# Altium schematic symbol library dongxf_Schlib.SchLib: 300 symbols (part 3 of 6)
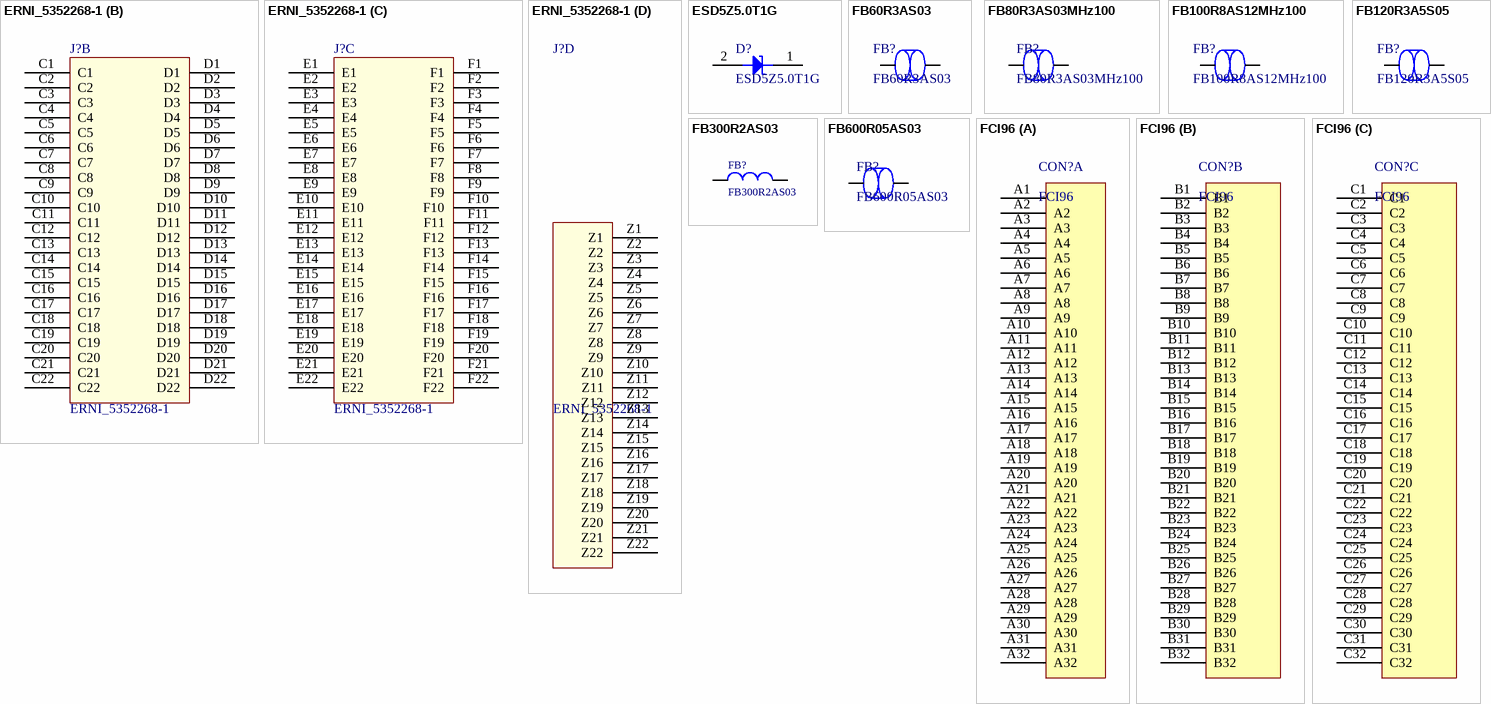
[diagram p16: symbols ERNI_5352268-1 to FCI96]

## ESD5Z5.0T1G
designator D?
TVS Diodes - Transient Voltage Suppressors SOD523 ESD DIODE; Manufacturer: ON Semiconductor; Breakdown Voltage: 6.2 V; Capacitance: 80 pF; Clamping Voltage: 18.6 V; Operating Voltage: 5 V; Peak Surge Current: 9.4 A; Peak Pulse Power Dissipation: 200 W; Polarity: Unidirectional; Supplier 1: Mouser; Manufacturer Part Number: ESD5Z5.0T1G; RoHS: RoHS Compliant; Category: TVS Diodes - Transient Voltage Suppressors; Stock 1: 110099; Pricing 1: 1=0.378, 10=0.244, 100=0.101, 1000=0.069, 3000=0.054, 9000=0.046, 24000=0.043, 45000=0.041, 99000=0.035 (AUD); Dimensions: 0.8 mm W x 1.2 mm L; Package / Case: SOD-523; Packaging: Reel; Series: ESD5Z2.5T1G; Termination Style: SMD/SMT; Brand: ON Semiconductor; Maximum Operating Temperature: + 150 C; Minimum Operating Temperature: - 55 C; Product Category: Diodes- TVS; Standard Pack Qty: 3000; RoHS - Mouser: Y; Minimum Order Quantity: 1; Reeling: True; ComponentLink1URL: http://www.mouser.com/ds/2/308/ESD5Z2.5T1-D-241596.pdf; ComponentLink1Description: http://www.mouser.com/ds/2/308/ESD5Z2.5T1-D-241596.pdf; Supplier Part Number 1: 863-ESD5Z5.0T1G; My_Descript: ESD5Z5.0T1G
footprint SOD-523
pins: 1, 2

## FB60R3AS03
designator FB?
EMI Filter Beads, Chips & Arrays 0603 Case 60 Ohms; Manufacturer: AEM; Manufacturer Part Number: MCP0603F600PT-T; Impedance: 60 Ohms; Maximum DC Current: 3 A; Maximum DC Resistance: 40 mOhms; Tolerance: 25 %; Case Height: 0.94 mm; Case Length: 1.6 mm; Case Width: 0.8 mm; Test Frequency: 100 MHz; Inductance: 4.7 uH; Self Resonant Frequency: 1 MHz; Shielding: Shielded; Type: Low Profile High Current IHLP Inductors; Supplier 1: Mouser; RoHS: RoHS Compliant; Category: EMI Filter Beads, Chips & Arrays; Stock 1: 902; Pricing 1: 1=0.135, 25=0.093, 50=0.072, 100=0.065, 500=0.058, 1000=0.050, 2000=0.047, 4000=0.042, 8000=0.039 (AUD); Capacitance: -; Dimensions: 0.8 mm W x 1.6 mm L x 0.94 mm H; Operating Temperature Range: - 55 C to + 125 C; Package / Case: 0603 (1608 metric); Packaging: Reel; Product: Ferrite Chip Beads; Termination Style: SMD/SMT; Brand: AEM; Product Category: Ferrite Power Beads; Standard Pack Qty: 1000; RoHS - Mouser: Y; Minimum Order Quantity: 1; Reeling: True; ComponentLink1URL: http://doc.aemcomponents.com/catalog/AEM_MCP.pdf; ComponentLink1Description: http://doc.aemcomponents.com/catalog/AEM_MCP.pdf; Supplier Part Number 1: 637-MCP0603F600PT-T; My_Descript: FB60R3AS03; Supplier 2: Mouser; Stock 2: 3435; Pricing 2: 1=2.30, 10=1.89, 100=1.70, 500=1.55, 1000=1.40, 2000=1.31, 4000=1.24, 8000=1.19, 12000=1.13 (AUD); Series: IHLP-2525CZ-11; ComponentLink2URL: http://www.mouser.com/ds/2/427/ihlp25cz-240021.pdf; ComponentLink2Description: http://www.mouser.com/ds/2/427/ihlp25cz-240021.pdf; Supplier Part Number 2: 71-IHLP2525CZER4R7M1
footprint FB0603 (1608 metric)
pins: 1, 2

## FB80R3AS03MHz100
designator FB?
Manufacturer: Bourns; Manufacturer Part Number: MH1608-800Y; Impedance: 80 Ohms; Maximum DC Current: 3 A; Maximum DC Resistance: 40 mOhms; Tolerance: 25 %; Case Height: 0.8 mm; Case Length: 1.6 mm; Test Frequency: 100 MHz; Supplier 1: Mouser; RoHS: RoHS Compliant; Category: EMI Filter Beads, Chips & Arrays; Stock 1: 10503; Pricing 1: 1=0.135, 10=0.078, 25=0.070, 50=0.063, 100=0.046, 250=0.034, 500=0.031, 1000=0.027, 4000=0.020 (AUD); Capacitance: -; Dimensions: 0.8 mm W x 1.6 mm L x 0.8 mm H; Operating Temperature Range: - 55 C to + 125 C; Package / Case: 1608 (3216 metric); Packaging: Reel; Product: Ferrite Chip Beads; Series: MH; Termination Style: SMD/SMT; Brand: Bourns; Case Width: 0.8 mm; Product Category: SMD Ferrite Bead; Standard Pack Qty: 4000; RoHS - Mouser: Y; Minimum Order Quantity: 1; Reeling: True; ComponentLink1URL: http://www.mouser.com/ds/2/54/mh-69602.pdf; ComponentLink1Description: http://www.mouser.com/ds/2/54/mh-69602.pdf; Supplier Part Number 1: 652-MH1608-800Y; My_Descript: FB80R3AS03MHz100
footprint FB0603 (1608 metric)
pins: 1, 2

## FB100R8AS12MHz100
designator FB?
FERRITE CHIP POWER 120 OHM SMD; Manufacturer: Laird Technologies; Manufacturer Part Number: HI1812V101R-10; Impedance: 100 Ohms; Maximum DC Current: 8 A; Maximum DC Resistance: 10 mOhms; Case Height: 5 mm; Case Length: 4.5 mm; Case Width: 3.2 mm; Test Frequency: 100 MHz; MY_Descript: FB100R8AS12MHz100; Supplier 1: Mouser; RoHS: RoHS Compliant; Category: EMI Filter Beads, Chips & Arrays; Stock 1: 38101; Pricing 1: 1=0.392, 10=0.246, 100=0.205, 500=0.189, 1000=0.159, 2500=0.149, 10000=0.115, 25000=0.112, 50000=0.109 (AUD); Capacitance: -; Dimensions: 3.2 mm W x 4.5 mm L x 5 mm H; Operating Temperature Range: - 55 C to + 125 C; Package / Case: 1812 (4532 metric); Packaging: Reel; Product: Ferrite Chip Beads; Series: HI; Termination Style: SMD/SMT; Brand: Laird Technologies; Product Category: Chip Ferrite Beads / EMI Filters; Standard Pack Qty: 2500; RoHS - Mouser: Y; Minimum Order Quantity: 1; Reeling: True; ComponentLink1URL: http://www.lairdtech.com/WorkArea/linkit.aspx?LinkIdentifier=id&ItemID=4855; ComponentLink1Description: http://www.lairdtech.com/WorkArea/linkit.aspx?LinkIdentifier=id&ItemID=4855; Supplier Part Number 1: 875-HI1812V101R-10
footprint FB1812(4532)
pins: 1, 2

## FB120R3A5S05
designator FB?
FERRITE CHIP POWER 120 OHM SMD; Manufacturer: Laird-Signal Integrity Products; Manufacturer Part Number: HI0805O121R-10; Impedance @ Frequency: 120 Ohm @ 100MHz; Current Rating: 3.5A; DC Resistance (DCR): 20 mOhm Max; Filter Type: Differential Mode - Single; Supplier 1: Digi-Key; RoHS: RoHS Compliant; Category: Filters; Stock 1: 70333; Pricing 1: 1=0.1, 10=0.087, 25=0.0792, 50=0.0712, 100=0.0523, 250=0.038, 500=0.03484, 1000=0.0301 (USD); Packaging: Digi-Reel?; Package / Case: 0805 (2012 Metric); Mounting Type: Surface Mount; Height (Max): 0.043" (1.10mm); Size / Dimension: 0.079" L x 0.049" W (2.00mm x 1.25mm); ComponentLink1URL: http://www.lairdtech.com/WorkArea/linkit.aspx?LinkIdentifier=id&ItemID=4844; ComponentLink1Description: http://www.lairdtech.com/WorkArea/linkit.aspx?LinkIdentifier=id&ItemID=4844; Supplier Part Number 1: 240-2393-6-ND; MY_Descript: FB120R3A5S05
footprint FB0805 (2012metric)
pins: 1, 2

## FB300R2AS03
designator FB?
EMI Filter Beads, Chokes & Arrays 0603 300ohm 25%; Manufacturer: KOA Speer; Manufacturer Part Number: CZP1JFTTD301P; Maximum DC Resistance: 0.1 Ohms; Maximum DC Current: 2000 mA; Impedance: 300 Ohms; Case Height: 0.8 mm; Case Length: 1.6 mm; Footprint: CAPC1608X90N; Value: 300OHM; Supplier 1: Mouser; Supplier Part Number 1: 660-CZP1JFTTD301P; Product: Chip Ferrite Beads; Package / Case: 0603 (1608 metric); RoHS - Mouser: Y; Tolerance: 25 %; Operating Temperature Range: - 55 C to + 125 C; Product Category: Ferrite Chip Beads; RoHS: RoHS Compliant; Termination Style: SMD/SMT; Packaging: Reel; Category: EMI Filter Beads, Chokes & Arrays; Dimensions: 0.8 mm W x 1.6 mm L x 0.8 mm H; Reeling: True; Minimum Order Quantity: 1; Case Width: 0.8 mm; My_Descript: FB300R2AS03
footprint FB0603 (1608 metric)
pins: 1, 2

## FB600R05AS03
designator FB?
EMI Filter Beads, Chips & Arrays 0603 600 OHM; Manufacturer: Murata Electronics; Manufacturer Part Number: BLM18AG601SN1D; Impedance: 600 Ohms; Maximum DC Current: 500 mA; Maximum DC Resistance: 380 mOhms; Tolerance: 25 %; Case Height: 0.8 mm; Case Length: 1.6 mm; Test Frequency: 100 MHz; Supplier 1: Mouser; RoHS: RoHS Compliant; Category: EMI Filter Beads, Chips & Arrays; Stock 1: 252987; Pricing 1: 1=0.149, 10=0.088, 100=0.043, 1000=0.036, 4000=0.027, 8000=0.026, 24000=0.023, 100000=0.022 (AUD); Capacitance: -; Dimensions: 0.8 mm W x 1.6 mm L x 0.8 mm H; Operating Temperature Range: - 55 C to + 125 C; Package / Case: 0603 (1608 metric); Packaging: Reel; Product: Ferrite Chip Beads; Series: BLM18A; Termination Style: SMD/SMT; Brand: Murata Electronics; Case Width: 0.8 mm; Product Category: SMD EMI Filters/Chip Ferrite Beads; Standard Pack Qty: 4000; RoHS - Mouser: Y; Minimum Order Quantity: 1; Reeling: True; ComponentLink1URL: http://www.mouser.com/ds/2/281/Murata BL Series-202933.pdf; ComponentLink1Description: http://www.mouser.com/ds/2/281/Murata BL Series-202933.pdf; Supplier Part Number 1: 81-BLM11A601S; My_Descript: FB600R05AS03
footprint FB0603 (1608 metric)
pins: 1, 2

## FCI96
designator CON?
part A pins: A1, A2, A3, A4, A5, A6, A7, A8, A9, A10, A11, A12, A13, A14, A15, A16, A17, A18, A19, A20, A21, A22, A23, A24, A25, A26, A27, A28, A29, A30, A31, A32
part B pins: B1, B2, B3, B4, B5, B6, B7, B8, B9, B10, B11, B12, B13, B14, B15, B16, B17, B18, B19, B20, B21, B22, B23, B24, B25, B26, B27, B28, B29, B30, B31, B32
part C pins: C1, C2, C3, C4, C5, C6, C7, C8, C9, C10, C11, C12, C13, C14, C15, C16, C17, C18, C19, C20, C21, C22, C23, C24, C25, C26, C27, C28, C29, C30, C31, C32

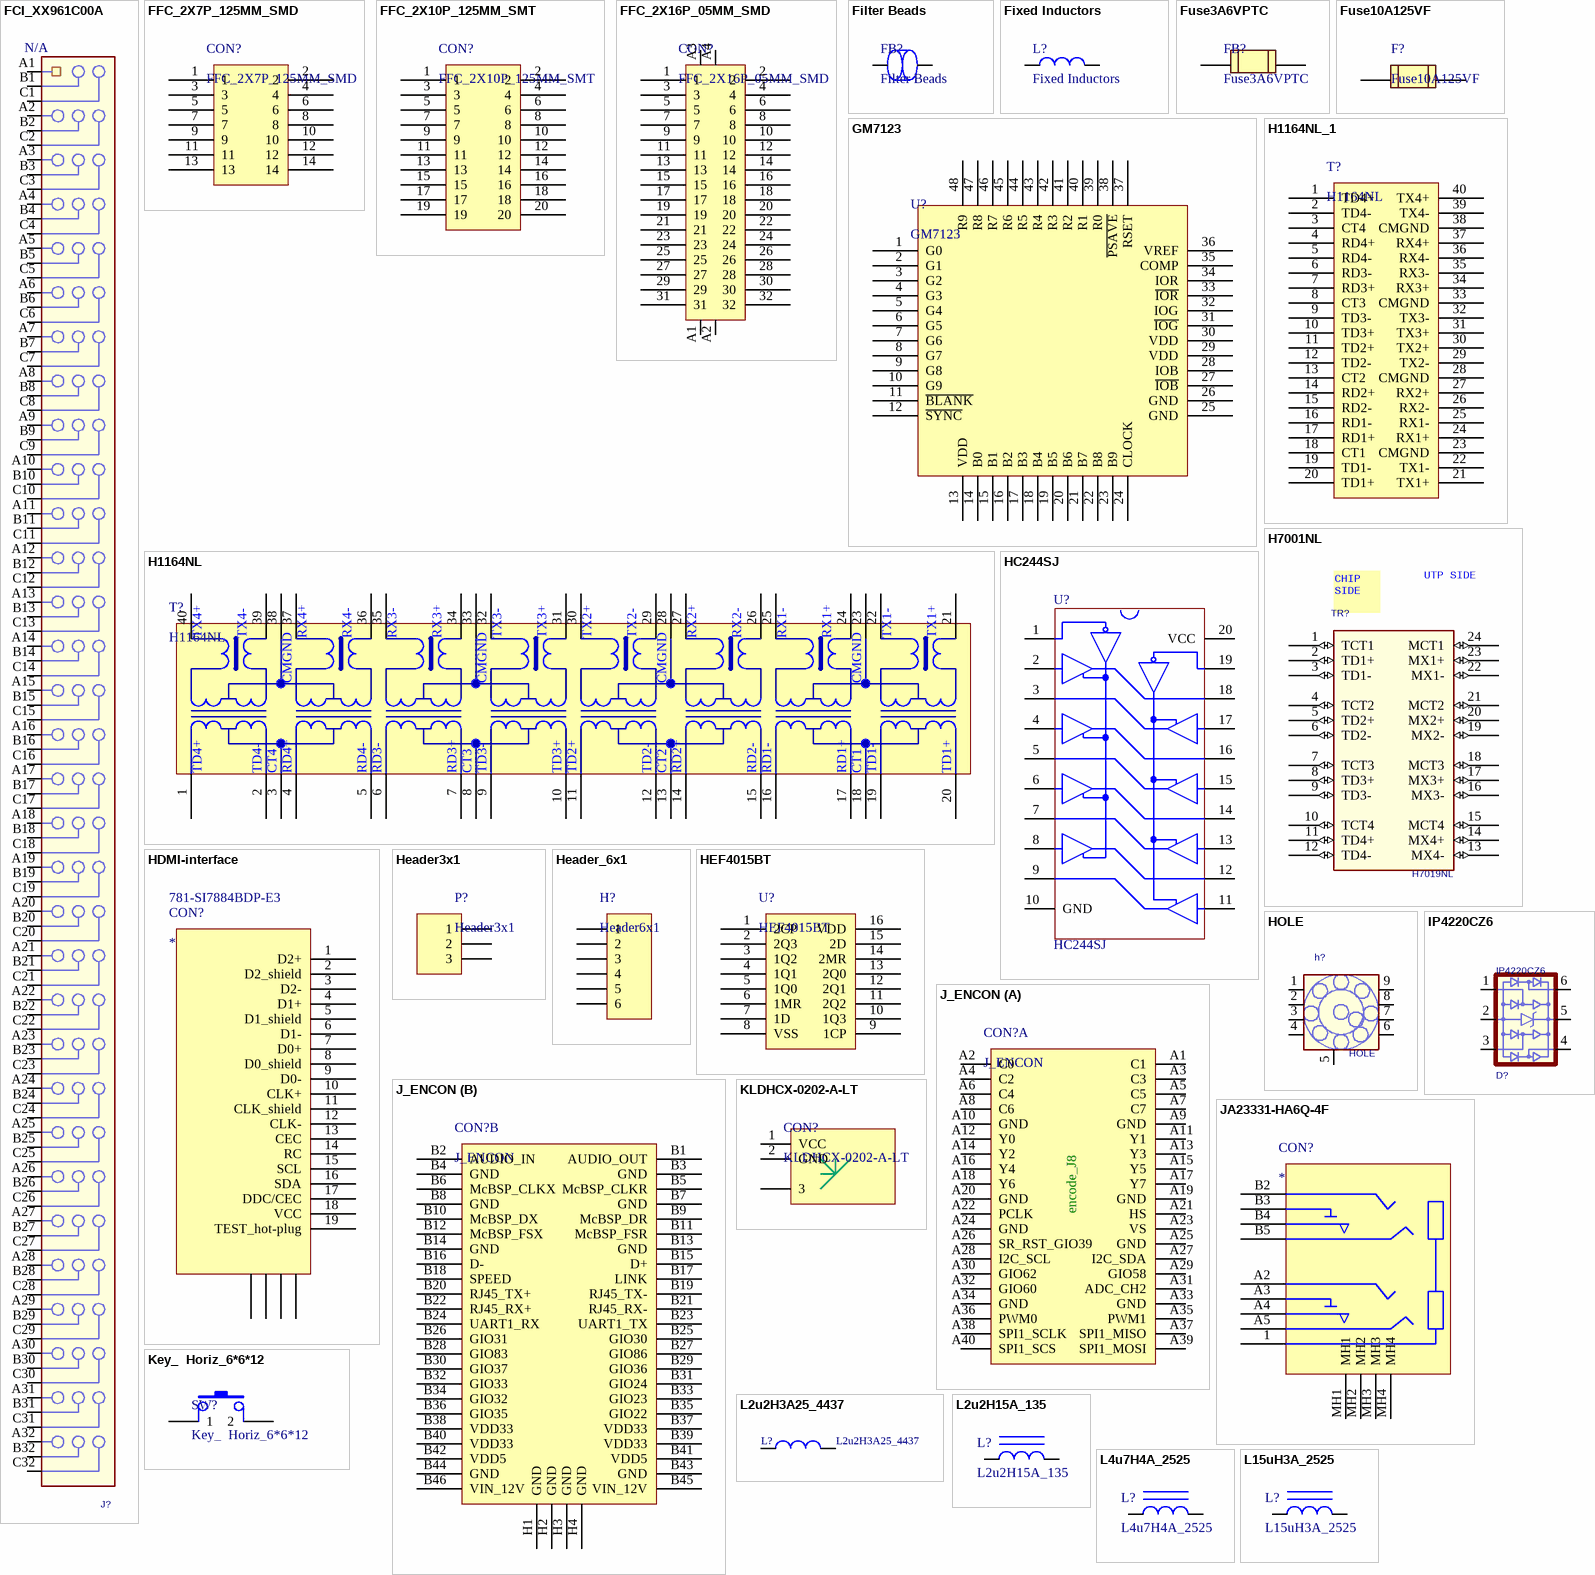
[diagram p6: symbols FCI_XX961C00A to L15uH3A_2525]

## FCI_XX961C00A
designator J?
Supplier 1: Mouser; Supplier Part Number 1: N/A
pins: A1, A2, A3, A4, A5, A6, A7, A8, A9, A10, A11, A12, A13, A14, A15, A16, A17, A18, A19, A20, A21, A22, A23, A24, A25, A26, A27, A28, A29, A30, A31, A32, B1, B2, B3, B4, B5, B6, B7, B8, B9, B10, B11, B12, B13, B14, B15, B16, B17, B18, B19, B20, B21, B22, B23, B24, B25, B26, B27, B28, B29, B30, B31, B32, C1, C2, C3, C4, C5, C6, C7, C8, C9, C10, C11, C12, C13, C14, C15, C16, C17, C18, C19, C20, C21, C22, C23, C24, C25, C26, C27, C28, C29, C30, C31, C32

## FFC_2X7P_125MM_SMD
designator CON?
Manufacturer: Molex; Current Rating: 1 A; Mounting Angle: Vertical; Number of Positions: 14; Voltage Rating: 200 V; Pitch: 1.25 mm; Actuation Type: ZIF; My_Descript: FFC_2X7P_125MM_SMD; Supplier 1: Mouser; Manufacturer Part Number: 39-53-2145; RoHS: RoHS Compliant; Category: FFC & FPC Connectors; Stock 1: 841; Pricing 1: 1=1.65, 10=1.32, 100=1.26, 250=1.01, 500=0.959, 1000=0.852, 2000=0.709 (AUD); Contact Plating: Tin-Bismuth over Nickel; Housing Material: Polybutylene Terephthalate (PBT); Packaging: Tray; Series: 05597; Termination Style: SMD; Brand: Molex; Contact Material: Phosphor Bronze; Product Category: 1.25mm FFC/FPC Connectors; Product Type: Board Mount; Standard Pack Qty: 900; RoHS - Mouser: Y; Minimum Order Quantity: 1; Reeling: False; ComponentLink1URL: http://www.mouser.com/ds/2/276/0039532145_FFC_FPC_CONNECTORS-160044.pdf; ComponentLink1Description: http://www.mouser.com/ds/2/276/0039532145_FFC_FPC_CONNECTORS-160044.pdf; Supplier Part Number 1: 538-39-53-2145
footprint FFC_2X7P_125MM_SMD
pins: 1, 2, 3, 4, 5, 6, 7, 8, 9, 10, 11, 12, 13, 14

## FFC_2X10P_125MM_SMT
designator CON?
Manufacturer: Molex; Current Rating: 1 A; Mounting Angle: Vertical; Number of Positions: 20; Voltage Rating: 200 V; Pitch: 1.25 mm; Actuation Type: ZIF; Supplier 1: Mouser; Manufacturer Part Number: 39-53-2205; RoHS: RoHS Compliant; Category: FFC & FPC Connectors; Stock 1: 948; Pricing 1: 1=2.30, 50=2.03, 100=1.49, 500=1.47, 1000=1.34, 2000=1.20 (AUD); Contact Plating: Tin-Bismuth over Nickel; Housing Material: Polybutylene Terephthalate (PBT); Packaging: Tray; Series: 05597; Termination Style: Through Hole; Brand: Molex; Contact Material: Phosphor Bronze; Product Category: 1.25mm FFC/FPC Connectors; Product Type: Board Mount; Standard Pack Qty: 700; RoHS - Mouser: Y; Minimum Order Quantity: 1; Reeling: False; ComponentLink1URL: http://www.mouser.com/ds/2/276/0039532205_FFC_FPC_CONNECTORS-160244.pdf; ComponentLink1Description: http://www.mouser.com/ds/2/276/0039532205_FFC_FPC_CONNECTORS-160244.pdf; Supplier Part Number 1: 538-39-53-2205; My_Descript: FFC_2X10P_125MM_SMT
footprint FFC_2X10P_125MM_SMT
pins: 1, 2, 3, 4, 5, 6, 7, 8, 9, 10, 11, 12, 13, 14, 15, 16, 17, 18, 19, 20

## FFC_2X16P_05MM_SMD
designator CON?
FFC & FPC Connectors 0.5 FPC CONN. VERTIC AL SMT NON-ZIF 32CKT; Manufacturer: Molex; Manufacturer Part Number: 78127-1329; Current Rating: 500 mA; Number of Positions: 32; Voltage Rating: 50 VAC; Pitch: 0.5 mm; Supplier 1: Mouser; RoHS: RoHS Compliant; Category: FFC & FPC Connectors; Stock 1: 1075; Pricing 1: 1=2.23, 10=2.00, 100=1.57, 500=1.31, 1000=0.988 (AUD); Contact Plating: Tin Bismuth; Housing Material: Polyamide (PA); Mounting Angle: Vertical; Packaging: Reel; Series: 78127; Termination Style: SMD; Brand: Molex; Contact Material: Copper Alloy; Product Category: .50mm FFC/FPC Connectors; Product Type: Board Mount; Standard Pack Qty: 1000; Tradename: Easy-On; RoHS - Mouser: Y; Minimum Order Quantity: 1; Reeling: True; ComponentLink1URL: http://www.mouser.com/ds/2/276/0781271329_FFC_FPC_CONNECTORS-175658.pdf; ComponentLink1Description: http://www.mouser.com/ds/2/276/0781271329_FFC_FPC_CONNECTORS-175658.pdf; Supplier Part Number 1: 538-78127-1329; My_Descript: FFC_2X16P_05MM_SMD
footprint FFC16X2_05MM_SMD
pins: 1, 2, 3, 4, 5, 6, 7, 8, 9, 10, 11, 12, 13, 14, 15, 16, 17, 18, 19, 20, 21, 22, 23, 24, 25, 26, 27, 28, 29, 30, 31, 32, A1, A2, A3, A4

## Filter Beads
designator FB?
pins: 1, 2

## Fixed Inductors
designator L?
pins: 1, 2

## Fuse3A6VPTC
designator FB?
Resettable Fuses - PPTC 1.5A 6V 0.03ohm; Manufacturer: Bourns; Manufacturer Part Number: MF-NSMF150-2; Resistance: 130 mOhms; Type: PTC Resettable Fuses; Current Rating - Max: 100 A; Maximum Voltage: 6 VDC; Trip Current: 3 A; Supplier 1: Mouser; RoHS: RoHS Compliant; Category: Resettable Fuses - PPTC; Stock 1: 4299; Pricing 1: 1=0.419, 10=0.352, 100=0.311, 250=0.277, 500=0.243, 1000=0.219, 3000=0.194, 6000=0.182, 9000=0.170 (AUD); Dimensions: 3.4 mm L x 1.8 mm W x 0.7 mm  H; Operating Temperature Range: - 40 C to + 85 C; Package / Case: 1206 (3216 metric); Packaging: Reel; Series: MF-NSMF; Termination Style: SMD/SMT; Brand: Bourns; Hold Current: 1.5 A; Mounting Style: SMD/SMT; Product Category: Radial Lead Resettable Fuses; Standard Pack Qty: 3000; Tradename: Multifuse; RoHS - Mouser: Y; Minimum Order Quantity: 1; Reeling: True; ComponentLink1URL: http://www.mouser.com/ds/2/54/mfnsmf-48043.pdf; ComponentLink1Description: http://www.mouser.com/ds/2/54/mfnsmf-48043.pdf; Supplier Part Number 1: 652-MF-NSMF150-2; My_Descript: Fuse3A6VPTC
footprint FB1206(3216 metric)
pins: 1, 2

## Fuse10A125VF
designator F?
Surface Mount Fuses 125V 10A W/SN Caps; Manufacturer: Littelfuse; Manufacturer Part Number: 0451010.NR; Type: Nano Surface Mount Very Fast Acting Fuse; Fuse Size / Group: NANO; Fuse Type: Fast Blow; Interrupt Rating: 35 Amps at 125 VoltsAC / 300 Amps at 32 VoltsDC / 50 Amps at 125 VoltsDC; Case Height: 2.69 mm; Case Length: 6.1 mm; Supplier 1: Mouser; RoHS: RoHS Compliant; Category: Surface Mount Fuses; Stock 1: 0; Pricing 1: 3070=1.23, 5000=1.10, 10000=1.00 (AUD); Current Rating: 10 A; Dimensions: 6.1 mm L x 2.69 mm W; Packaging: Reel; Product: Surface Mount Fuses; Series: 451; Voltage Rating AC: 125 V; Voltage Rating DC: 125 V; Brand: Littelfuse; Case Width: 2.69 mm; Product Category: Fuses - Surface Mount; Product Type: Surface Mount Fuse; Standard Pack Qty: 5000; RoHS - Mouser: N; Minimum Order Quantity: 3070; Reeling: True; ComponentLink1URL: http://www.mouser.com/ds/2/240/Littelfuse_Fuse_451_453-66973.pdf; ComponentLink1Description: http://www.mouser.com/ds/2/240/Littelfuse_Fuse_451_453-66973.pdf; Supplier Part Number 1: 576-0451010.NR; My_Descript: Fuse10A125VF
footprint FUSM6127X27
pins: 1, 2

## GM7123
designator U?
pins: 1 G0, 2 G1, 3 G2, 4 G3, 5 G4, 6 G5, 7 G6, 8 G7, 9 G8, 10 G9, 11 ~{BLANK}, 12 ~{SYNC}, 13 VDD, 14 B0, 15 B1, 16 B2, 17 B3, 18 B4, 19 B5, 20 B6, 21 B7, 22 B8, 23 B9, 24 CLOCK, 25 GND, 26 GND, 27 ~{IOB}, 28 IOB, 29 VDD, 30 VDD, 31 ~{IOG}, 32 IOG, 33 ~{IOR}, 34 IOR, 35 COMP, 36 VREF, 37 RSET, 38 ~{PSAVE}, 39 R0, 40 R1, 41 R2, 42 R3, 43 R4, 44 R5, 45 R6, 46 R7, 47 R8, 48 R9

## H1164NL
designator T?
Transformers Audio & Signal 40P SOIC TRANSFORMER; Manufacturer: Pulse; Frequency Range: 1 kHz to 100 MHz; Isolation Voltage: 1.5 kV; Primary Impedance: 1 Ohms CT; Shielding: Unshielded; Type: 10/100 Base-TX Transformers; Supplier 1: Mouser; Manufacturer Part Number: H1164NL; RoHS: RoHS Compliant; Category: Transformers Audio & Signal; Stock 1: 261; Pricing 1: 1=15.70, 10=12.03, 25=12.02, 50=10.03, 100=9.53, 250=9.42, 500=9.30, 1000=9.19 (AUD); Dimensions: 28.58 mm L x 12.19 mm W x 5.84 mm H; Height: 5.84 mm; Length: 28.58 mm; Operating Temperature Range: 0 C to + 70 C; Package / Case: 28.58 mm x 116 mm x 5.84 mm; Product: 10/100 Base-TX Transformer Modules; Secondary Impedance: 1 Ohms CT; Termination Style: SMD/SMT; Width: 12.19 mm; Brand: Pulse; Product Category: Transformers; Product Type: Transformers; Standard Pack Qty: 15; RoHS - Mouser: Y; Minimum Order Quantity: 1; Reeling: False; ComponentLink1URL: http://www.mouser.com/ds/2/336/Pulse h1164-197509.pdf; ComponentLink1Description: http://www.mouser.com/ds/2/336/Pulse h1164-197509.pdf; Supplier Part Number 1: 673-H1164NL; My_Descript: H1164NL
footprint H1164
pins: 1 TD4+, 2 TD4-, 3 CT4, 4 RD4+, 5 RD4-, 6 RD3-, 7 RD3+, 8 CT3, 9 TD3-, 10 TD3+, 11 TD2+, 12 TD2-, 13 CT2, 14 RD2+, 15 RD2-, 16 RD1-, 17 RD1+, 18 CT1, 19 TD1-, 20 TD1+, 21 TX1+, 22 TX1-, 23 CMGND, 24 RX1+, 25 RX1-, 26 RX2-, 27 RX2+, 28 CMGND, 29 TX2-, 30 TX2+, 31 TX3+, 32 TX3-, 33 CMGND, 34 RX3+, 35 RX3-, 36 RX4-, 37 RX4+, 38 CMGND, 39 TX4-, 40 TX4+

## H1164NL_1
designator T?, comment H1164NL
Transformers Audio & Signal 40P SOIC TRANSFORMER; Manufacturer: Pulse; Frequency Range: 1 kHz to 100 MHz; Isolation Voltage: 1.5 kV; Primary Impedance: 1 Ohms CT; Shielding: Unshielded; Type: 10/100 Base-TX Transformers; Supplier 1: Mouser; Manufacturer Part Number: H1164NL; RoHS: RoHS Compliant; Category: Transformers Audio & Signal; Stock 1: 261; Pricing 1: 1=15.70, 10=12.03, 25=12.02, 50=10.03, 100=9.53, 250=9.42, 500=9.30, 1000=9.19 (AUD); Dimensions: 28.58 mm L x 12.19 mm W x 5.84 mm H; Height: 5.84 mm; Length: 28.58 mm; Operating Temperature Range: 0 C to + 70 C; Package / Case: 28.58 mm x 116 mm x 5.84 mm; Product: 10/100 Base-TX Transformer Modules; Secondary Impedance: 1 Ohms CT; Termination Style: SMD/SMT; Width: 12.19 mm; Brand: Pulse; Product Category: Transformers; Product Type: Transformers; Standard Pack Qty: 15; RoHS - Mouser: Y; Minimum Order Quantity: 1; Reeling: False; ComponentLink1URL: http://www.mouser.com/ds/2/336/Pulse h1164-197509.pdf; ComponentLink1Description: http://www.mouser.com/ds/2/336/Pulse h1164-197509.pdf; Supplier Part Number 1: 673-H1164NL; My_Descript: H1164NL
footprint H1164
pins: 1 TD4+, 2 TD4-, 3 CT4, 4 RD4+, 5 RD4-, 6 RD3-, 7 RD3+, 8 CT3, 9 TD3-, 10 TD3+, 11 TD2+, 12 TD2-, 13 CT2, 14 RD2+, 15 RD2-, 16 RD1-, 17 RD1+, 18 CT1, 19 TD1-, 20 TD1+, 21 TX1+, 22 TX1-, 23 CMGND, 24 RX1+, 25 RX1-, 26 RX2-, 27 RX2+, 28 CMGND, 29 TX2-, 30 TX2+, 31 TX3+, 32 TX3-, 33 CMGND, 34 RX3+, 35 RX3-, 36 RX4-, 37 RX4+, 38 CMGND, 39 TX4-, 40 TX4+

## H7001NL
designator TR?, comment H7019NL
PN: H7008NL/LFTG0003-SG; VENDOR: PULSE ENG/DELTA; LAYOUT: SMD-24
footprint H7019NL
footprint H7001NL
pins: 1 TCT1 (io), 2 TD1+ (io), 3 TD1- (io), 4 TCT2 (io), 5 TD2+ (io), 6 TD2- (io), 7 TCT3 (io), 8 TD3+ (io), 9 TD3- (io), 10 TCT4 (io), 11 TD4+ (io), 12 TD4- (io), 13 MX4- (io), 14 MX4+ (io), 15 MCT4 (io), 16 MX3- (io), 17 MX3+ (io), 18 MCT3 (io), 19 MX2- (io), 20 MX2+ (io), 21 MCT2 (io), 22 MX1- (io), 23 MX1+ (io), 24 MCT1 (io)
text: UTP SIDE; CHIP / SIDE

## HC244SJ
designator U?
footprint SOP65P640X120
pins: 1, 2, 3, 4, 5, 6, 7, 8, 9, 10 GND, 11, 12, 13, 14, 15, 16, 17, 18, 19, 20 VCC

## HDMI-interface
designator CON?  Supplier Part Number 1: 781-SI7884BDP-E3
Supplier 1: Mouser
footprint MiniHDMI_Receptance
pins: 1 D2+, 2 D2_shield, 3 D2-, 4 D1+, 5 D1_shield, 6 D1-, 7 D0+, 8 D0_shield, 9 D0-, 10 CLK+, 11 CLK_shield, 12 CLK-, 13 CEC, 14 RC, 15 SCL, 16 SDA, 17 DDC/CEC, 18 VCC, 19 TEST_hot-plug, MH1 GND, MH2 NC, MH3 GND, MH4 GND

## Header3x1
designator P?
pins: 1, 2, 3

## Header_6x1
designator H?, comment Header6x1
pins: 1, 2, 3, 4, 5, 6

## HEF4015BT
designator U?
Counter Shift Registers DUAL 4-BIT STATIC SHFT REGISTR; Manufacturer: NXP Semiconductors; Manufacturer Part Number: HEF4015BT,652; Number of Circuits: 2; Counting Sequence: Serial to Parallel; Logic Family: HEF4000; Logic Type: CMOS; Number of Input Lines: 1; Number of Output Lines: 4; Operating Supply Voltage: 3.3 V, 5 V, 9 V, 12 V; Propagation Delay Time: 40 ns; Supply Voltage - Max: 15.5 V; Supply Voltage - Min: 4.5 V; Supplier 1: Mouser; RoHS: RoHS Compliant; Category: Counter Shift Registers; Stock 1: 714; Pricing 1: 1=0.648, 10=0.425, 100=0.306, 1000=0.252, 2500=0.215, 10000=0.196, 25000=0.190, 50000=0.186 (AUD); Function: Shift Register; Package / Case: SOT-109; Packaging: Tube; Brand: NXP Semiconductors; Mounting Style: SMD/SMT; Maximum Operating Temperature: + 85 C; Minimum Operating Temperature: - 40 C; Product Category: Logic - Counters, Shift Registers; Standard Pack Qty: 1000; RoHS - Mouser: Y; Minimum Order Quantity: 1; Reeling: False; ComponentLink1URL: http://www.mouser.com/ds/2/302/HEF4015B-353172.pdf; ComponentLink1Description: http://www.mouser.com/ds/2/302/HEF4015B-353172.pdf; Supplier Part Number 1: 771-HEF4015BTD; My_Descript: HEF4015BT
footprint SOIC16
pins: 1 2CP, 2 2Q3, 3 1Q2, 4 1Q1, 5 1Q0, 6 1MR, 7 1D, 8 VSS, 9 1CP, 10 1Q3, 11 2Q2, 12 2Q1, 13 2Q0, 14 2MR, 15 2D, 16 VDD

## HOLE
designator h?
footprint hole6_5d4
footprint hole6_5d4
pins: 1, 2, 3, 4, 5, 6, 7, 8, 9

## IP4220CZ6
designator D?
IC, ESD USB2, 15kV/8kV; Manufacturer: NXP Semiconductors; Manufacturer Part Number: IP4220CZ6,125; Voltage - Working: 5.5V; Number of Circuits: 4; Revision: A; Supplier 1: Digi-Key; RoHS: RoHS Compliant; Category: Circuit Protection; Stock 1: 60357; Pricing 1: 1=0.47, 10=0.368, 25=0.31, 100=0.2527, 250=0.20932, 500=0.1729, 1000=0.1295 (USD); Packaging: Cut Tape (CT); Voltage - Clamping: -; Technology: Mixed Technology; Power (Watts): -; Applications: USB; Package / Case: SC-74, SOT-457; Supplier Device Package: 6-TSOP; ComponentLink1URL: http://www.nxp.com/documents/data_sheet/IP4220CZ6.pdf; ComponentLink1Description: http://www.nxp.com/documents/data_sheet/IP4220CZ6.pdf; Supplier Part Number 1: 568-3529-1-ND; My_Descript: IP4220CZ6
footprint SOT23-6_H11
pins: 1, 2, 3, 4, 5, 6

## J_ENCON
designator CON?
My_Descript: J_ENCON
footprint J_ENCON
part A pins: A1 C1, A2 C0, A3 C3, A4 C2, A5 C5, A6 C4, A7 C7, A8 C6, A9 GND, A10 GND, A11 Y1, A12 Y0, A13 Y3, A14 Y2, A15 Y5, A16 Y4, A17 Y7, A18 Y6, A19 GND, A20 GND, A21 HS, A22 PCLK, A23 VS, A24 GND, A25 GND, A26 SR_RST_GIO39, A27 I2C_SDA, A28 I2C_SCL, A29 GIO58, A30 GIO62, A31 ADC_CH2, A32 GIO60, A33 GND, A34 GND, A35 PWM1, A36 PWM0, A37 SPI1_MISO, A38 SPI1_SCLK, A39 SPI1_MOSI, A40 SPI1_SCS
part B pins: B1 AUDIO_OUT, B2 AUDIO_IN, B3 GND, B4 GND, B5 McBSP_CLKR, B6 McBSP_CLKX, B7 GND, B8 GND, B9 McBSP_DR, B10 McBSP_DX, B11 McBSP_FSR, B12 McBSP_FSX, B13 GND, B14 GND, B15 D+, B16 D-, B17 LINK, B18 SPEED, B19 RJ45_TX-, B20 RJ45_TX+, B21 RJ45_RX-, B22 RJ45_RX+, B23 UART1_TX, B24 UART1_RX, B25 GIO30, B26 GIO31, B27 GIO86, B28 GIO83, B29 GIO36, B30 GIO37, B31 GIO24, B32 GIO33, B33 GIO23, B34 GIO32, B35 GIO22, B36 GIO35, B37 VDD33, B38 VDD33, B39 VDD33, B40 VDD33, B41 VDD5, B42 VDD5, B43 GND, B44 GND, B45 VIN_12V, B46 VIN_12V, H1 GND, H2 GND, H3 GND, H4 GND
part A text: encode_J8

## JA23331-HA6Q-4F
designator CON?
footprint JA23331-HA6Q-4F (Footprint not found)
pins: 1, A2 2, A3 3, A4 4, A5 5, B2 2, B3 3, B4 4, B5 5, MH1, MH2, MH3, MH4

## Key_  Horiz_6*6*12
designator SW?
Tactile Switches 6.0x6.0x3.85mm 260gf; Manufacturer: ALPS; Manufacturer Part Number: SKHHLPA010; Contact Form: SPST; Current Rating: 50 mA; Operating Force: 2.6 N; Switch Function: OFF - (ON); Voltage Rating DC: 12 V; Ground Terminal: No; Mounting Direction: Horizontal; Travel: 0.25 mm; Supplier 1: Mouser; RoHS: RoHS Compliant; Category: Tactile Switches; Stock 1: 46002; Pricing 1: 1=0.405, 50=0.331, 100=0.138, 500=0.109, 1000=0.096, 2000=0.082, 4000=0.077 (AUD); Color: Red; Operating Temperature Range: - 20 C to + 70 C; Packaging: Bulk; Series: SKHH; Termination Style: Solder Pin; Brand: ALPS; Mounting Style: Through Hole; Product Category: Tactile Switches; Standard Pack Qty: 1000; Tradename: TACT Switch; RoHS - Mouser: Y; Minimum Order Quantity: 1; Reeling: False; ComponentLink1URL: http://item.taobao.com/item.htm?spm=2013.1.0.0.gxJhdl&scm=1007.10009.518.0&id=18009913847&pvid=1ab552fa-5868-42d7-a22d-3383502d0adc; ComponentLink1Description: http://www.alps.com/products/WebObjects/catalog.woa/E/HTML/Tact/SnapIn/SKHH/SKHHLPA010.html; Supplier Part Number 1: 688-SKHHLP; My_Descript: Key_  Horiz_6*6*12
footprint Key_  Horiz_6*6*12
pins: 1, 2

## KLDHCX-0202-A-LT
designator CON?
DC Power Connectors 2.0MM DIA,HI-CURRENT LOCKING TYPE; Manufacturer: Kycon; Current Rating: 5 A; Inside Contact Diameter: 2 mm; Mounting Angle: Vertical; Voltage Rating: 16 V; Center Pin Length: 3.5 mm; Supplier 1: Mouser; Manufacturer Part Number: KLDHCX-0202-A-LT; RoHS: RoHS Compliant; Category: DC Power Connectors; Stock 1: 330; Pricing 1: 1=1.46, 25=1.34, 100=1.23, 500=1.15, 1000=1.02, 5000=0.887, 10000=0.813 (AUD); Contact Plating: Tin; Product: Jacks; Series: KLDHCX; Brand: Kycon; Mounting Style: PCB; Product Category: DC Power Connectors; Standard Pack Qty: 500; RoHS - Mouser: Y; Minimum Order Quantity: 1; Reeling: False; ComponentLink1URL: http://www.kycon.com/2013Catalogpage/DC Power/KLDX_0202_LT.pdf; ComponentLink1Description: http://www.kycon.com/2013Catalogpage/DC Power/KLDX_0202_LT.pdf; Supplier Part Number 1: 806-KLDHCX-0202-A-LT; My_Descript: KLDHCX-0202-A-LT
footprint PJ-059AH
pins: 1 VCC, 2 GND, 3

## L2u2H3A25_4437
designator L?
Fixed Inductors SMD Inductor WE-LHMI 4020 2.2uH; 3.25A; Manufacturer: Wurth Electronics; Manufacturer Part Number: 74437324022; Maximum DC Resistance: 61 mOhms; Self Resonant Frequency: 49 MHz; Shielding: Shielded; Tolerance: 20 %; Type: SMD Power Inductor; Case Height: 1.8 mm; Case Length: 4.45 mm; Case Width: 4.06 mm; Test Frequency: 100 kHz; Value: 2.2uH; Supplier 1: Mouser; Supplier Part Number 1: 710-74437324022; Category: Fixed Inductors; RoHS: RoHS Compliant; Dimensions: 4.06 mm W x 4.45 mm L x 1.8 mm H; Inductance: 2.2 uH; Maximum DC Current: 3.25 A; Operating Temperature Range: - 40 C to + 125 C; Packaging: Reel; Product: High Current Inductors; Series: WE-LHMI; Termination Style: SMD/SMT; RoHS - Mouser: Y; Minimum Order Quantity: 1; Reeling: True; My_Descript: L2u2H3A25_4437
footprint FB_4437 (Footprint not found)
pins: 1, 2

## L2u2H15A_135
designator L?
Fixed Inductors 2.2uH 32A SMD HIGH CURRENT; Manufacturer: Coiltronics / Cooper Bussmann; Manufacturer Part Number: HCM1305-2R2-R; Core Material: Powder Iron; Maximum DC Resistance: 5.29 mOhms; Tolerance: 20 %; Type: High Current SMD Power Inductors; Case Height: 5 mm; Case Length: 13.8 mm; Case Width: 12.5 mm; Test Frequency: 5 MHz; Supplier 1: Mouser; RoHS: RoHS Compliant; Category: Fixed Inductors; Stock 1: 575; Pricing 1: 1=4.06, 10=3.63, 50=3.38, 100=3.09, 400=3.02, 1200=2.94, 2000=2.84, 4000=2.71 (AUD); Inductance: 2.2 uH; Maximum DC Current: 32 A; Operating Temperature Range: - 55 C to + 125 C; Packaging: Reel; Product: High Current Inductors; Series: HCM1305; Termination Style: SMD/SMT; Brand: Coiltronics / Cooper Bussmann; Product Category: High Power Density, Low Profile Shielded Inductors; Standard Pack Qty: 400; RoHS - Mouser: Y; Minimum Order Quantity: 1; Reeling: True; ComponentLink1URL: http://www.mouser.com/ds/2/87/b329b2c5-c0df-41a5-bd13-a62a8b8640ff-42955.pdf; ComponentLink1Description: http://www.mouser.com/ds/2/87/b329b2c5-c0df-41a5-bd13-a62a8b8640ff-42955.pdf; Supplier Part Number 1: 704-HCM1305-2R2-R; My_Descript: L2u2H15A_135
footprint CDRH1339
pins: 1, 2

## L4u7H4A_2525
designator L?
Fixed Inductors 4.7uH 20%; Manufacturer: Vishay / Dale; Manufacturer Part Number: IHLP2525CZER4R7M11; Maximum DC Current: 4 A; Maximum DC Resistance: 33.4 mOhms; Self Resonant Frequency: 1 MHz; Shielding: Shielded; Type: Low Profile High Current IHLP Inductors; Case Height: 3 mm; Case Length: 6.86 mm; Case Width: 6.47 mm; Test Frequency: 100 kHz; Supplier 1: Mouser; RoHS: RoHS Compliant; Category: Fixed Inductors; Stock 1: 3435; Pricing 1: 1=2.30, 10=1.89, 100=1.70, 500=1.55, 1000=1.40, 2000=1.31, 4000=1.24, 8000=1.19, 12000=1.13 (AUD); Inductance: 4.7 uH; Operating Temperature Range: - 55 C to + 125 C; Package / Case: 2525 (6363 metric); Packaging: Reel; Product: Low Profile Inductors; Series: IHLP-2525CZ-11; Termination Style: SMD/SMT; Tolerance: 20 %; Brand: Vishay / Dale; Product Category: High Current Inductors; Standard Pack Qty: 2000; RoHS - Mouser: Y; Minimum Order Quantity: 1; Reeling: True; ComponentLink1URL: http://www.mouser.com/ds/2/427/ihlp25cz-240021.pdf; ComponentLink1Description: http://www.mouser.com/ds/2/427/ihlp25cz-240021.pdf; Supplier Part Number 1: 71-IHLP2525CZER4R7M1; My_Descript: L4u7H4A_2525
footprint FB7X7_SMD
pins: 1, 2

## L15uH3A_2525
designator L?
Manufacturer: Vishay / Dale; Manufacturer Part Number: IHLP2525CZER150M5A; Inductance: 15 uH; Maximum DC Current: 2.8 A; Maximum DC Resistance: 127 mOhms; Shielding: Shielded; Tolerance: 20 %; Case Height: 3 mm; Case Length: 6.86 mm; Case Width: 6.47 mm; Test Frequency: 100 kHz; Product Status: New Product; Supplier 1: Mouser; RoHS: RoHS Compliant; Category: Fixed Inductors; Stock 1: 975; Pricing 1: 1=4.25, 10=3.44, 100=2.86, 500=2.30, 1000=2.05, 2000=1.77, 4000=1.71, 8000=1.69 (AUD); Operating Temperature Range: - 55 C to + 155 C; Package / Case: 2525 (6363 metric); Packaging: Reel; Series: IHLP-2525CZ-5A; Termination Style: SMD/SMT; Brand: Vishay / Dale; Product Category: High Current Inductors; RoHS - Mouser: Y; Minimum Order Quantity: 1; Reeling: True; ComponentLink1URL: http://www.mouser.com/ds/2/427/lp25cz5a-244370.pdf; ComponentLink1Description: http://www.mouser.com/ds/2/427/lp25cz5a-244370.pdf; Supplier Part Number 1: 70-IHLP2525CZR150M5A; My_Descript: L15uH3A_2525
footprint FB7X7_SMD
pins: 1, 2

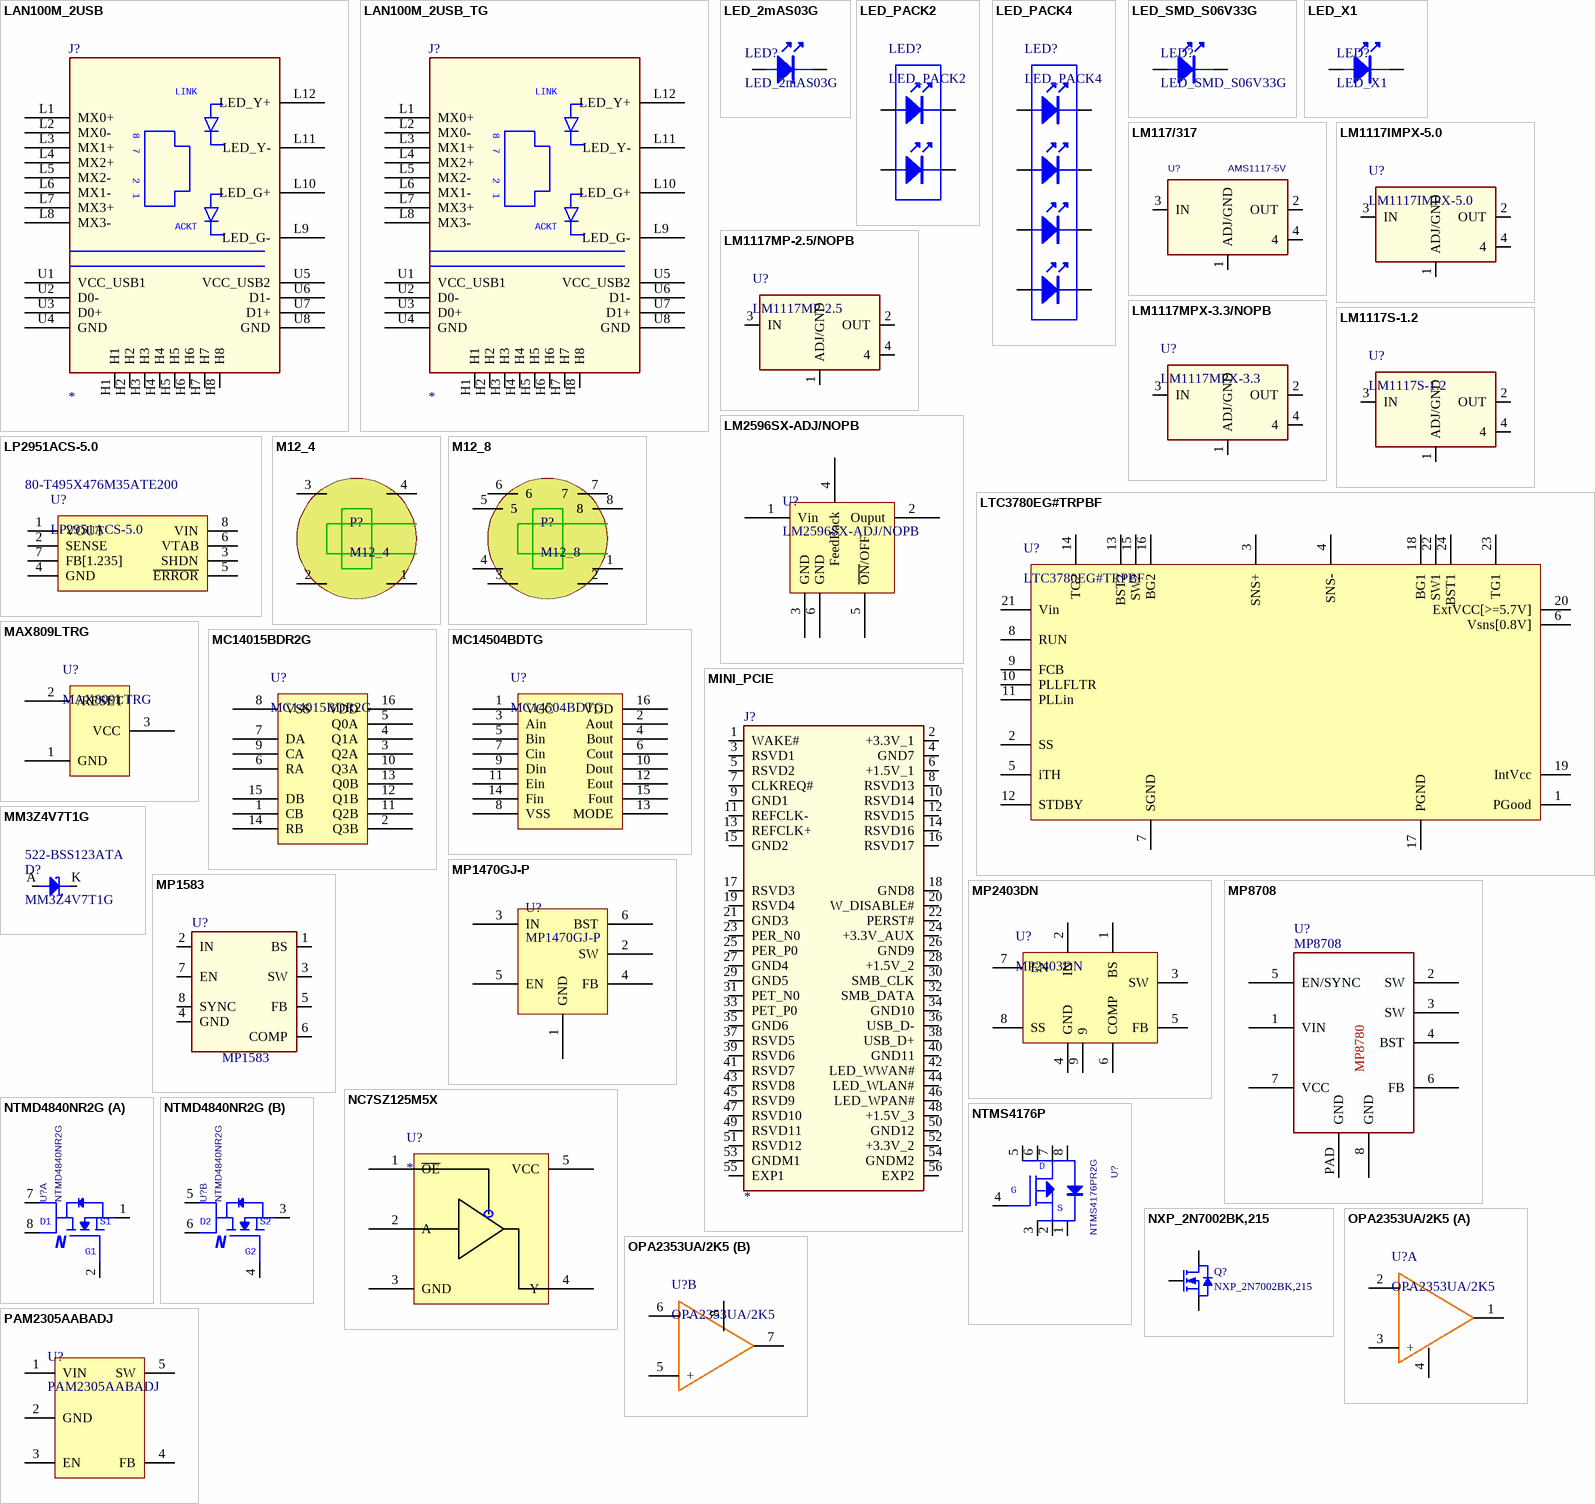
[diagram p7: symbols LAN100M_2USB to PAM2305AABADJ]

## LAN100M_2USB
designator J?
footprint lan100m_2usb_tg
pins: H1, H2, H3, H4, H5, H6, H7, H8, L1 MX0+, L2 MX0-, L3 MX1+, L4 MX2+, L5 MX2-, L6 MX1-, L7 MX3+, L8 MX3-, L9 LED_G-, L10 LED_G+, L11 LED_Y-, L12 LED_Y+, U1 VCC_USB1, U2 D0-, U3 D0+, U4 GND (power), U5 VCC_USB2, U6 D1-, U7 D1+, U8 GND (power)
text: LINK; 8; 7; 2; 1; ACKT

## LAN100M_2USB_TG
designator J?
My_Descript: LAN100M_2USB_TG
footprint lan100m_2usb_tg
pins: H1, H2, H3, H4, H5, H6, H7, H8, L1 MX0+, L2 MX0-, L3 MX1+, L4 MX2+, L5 MX2-, L6 MX1-, L7 MX3+, L8 MX3-, L9 LED_G-, L10 LED_G+, L11 LED_Y-, L12 LED_Y+, U1 VCC_USB1, U2 D0-, U3 D0+, U4 GND (power), U5 VCC_USB2, U6 D1-, U7 D1+, U8 GND (power)
text: LINK; 8; 7; 2; 1; ACKT

## LED_2mAS03G
designator LED?
Standard LEDs - SMD Green 575 nm Water Clear; Manufacturer: Bivar; Manufacturer Part Number: SM0603GCL; Forward Current: 2 mA; Forward Voltage: 1.9 V; LED Size: 1.6 mm x 0.8 mm x 0.6 mm; Luminous Intensity: 3.6 mcd; Viewing Angle: 130 deg; Wavelength/Color Temperature: 574 nm; Supplier 1: Mouser; RoHS: RoHS Compliant; Category: Standard LEDs - SMD; Stock 1: 0; Pricing 1: 1=0.486, 10=0.378, 100=0.340, 250=0.309, 500=0.271, 1000=0.232, 4000=0.232 (AUD); Illumination Color: Green; Lens Color/Style: Water Clear; Package / Case: 0603; Packaging: Reel; Brand: Bivar; Maximum Operating Temperature: + 80 C; Minimum Operating Temperature: - 30 C; Product Category: LEDs - Surface Mount; Standard Pack Qty: 4000; RoHS - Mouser: Y; Minimum Order Quantity: 1; Reeling: True; ComponentLink1URL: http://www.bivar.com/Portals/0/Products/d.ashx?f=/Portals/0/products/SM0603GCL.pdf; ComponentLink1Description: http://www.bivar.com/Portals/0/Products/d.ashx?f=/Portals/0/products/SM0603GCL.pdf; Supplier Part Number 1: 749-SM0603GCL; My_Descript: LED_2mAS03G
footprint LED_S03
pins: A 1, K 2

## LED_PACK2
designator LED?
My_Descript: LED_PACK2
footprint LED_PACK2
pins: 1, 2, 3, 4

## LED_PACK4
designator LED?
Manufacturer: Dialight; Manufacturer Part Number: 568-0102-222F; Illumination Color: Green; Wavelength: 565 nm; Forward Current: 10 mA; Forward Voltage: 2.1 V; LED Size: 3 mm; Luminous Intensity: 12.6 mcd; Viewing Angle: 60 deg; Supplier 1: Mouser; RoHS: RoHS Compliant; Category: LED Circuit Board Indicators; Stock 1: 4315; Pricing 1: 1=5.00, 10=3.50, 100=3.00, 250=2.66, 500=2.42, 1000=2.21, 2500=2.12, 5000=2.07 (AUD); Mounting Type: Through Hole; Packaging: Bulk; Series: 568; Brand: Dialight; Product Category: LED CBI R/A Quad-Level; Standard Pack Qty: 5; RoHS - Mouser: Y; Minimum Order Quantity: 1; Reeling: False; ComponentLink1URL: http://www.mouser.com/ds/2/109/568-0x0x-xxx-184777.pdf; ComponentLink1Description: http://www.mouser.com/ds/2/109/568-0x0x-xxx-184777.pdf; Supplier Part Number 1: 645-568-0102-222F
footprint LED_PACK4
pins: 1, 2, 3, 4, 5, 6, 7, 8

## LED_SMD_S06V33G
designator LED?
Manufacturer: Kingbright; Manufacturer Part Number: APTR3216ZGC; Illumination Color: Green; Forward Current: 20 mA; Forward Voltage: 3.3 V; LED Size: 3.2 mm x 1.6 mm; Luminous Intensity: 300 mcd; Viewing Angle: 120 deg; Wavelength/Color Temperature: 525 nm; Supplier 1: Mouser; RoHS: RoHS Compliant; Category: Standard LEDs - SMD; Stock 1: 12633; Pricing 1: 1=0.783, 10=0.495, 100=0.404, 1000=0.293, 2000=0.246, 10000=0.236, 24000=0.227, 50000=0.224 (AUD); Package / Case: 1206; Packaging: Reel; Brand: Kingbright; Maximum Operating Temperature: + 85 C; Minimum Operating Temperature: - 40 C; Product Category: LED SMD Standard; Standard Pack Qty: 2000; RoHS - Mouser: Y; Minimum Order Quantity: 1; Reeling: True; ComponentLink1URL: http://www.mouser.com/ds/2/216/APTR3216ZGC-82634.pdf; ComponentLink1Description: http://www.mouser.com/ds/2/216/APTR3216ZGC-82634.pdf; Supplier Part Number 1: 604-APTR3216ZGC; My_Descript: LED_SMD_S06V33G
footprint LED_SMD1206 (Footprint not found)
pins: A 1, K 2

## LED_X1
designator LED?
footprint led3mm
pins: A 1, K 2

## LM117/317
designator U?, comment AMS1117-5V
REUSE_ANNOTATE: TRUE
footprint sot_223_r_tg
pins: 1 ADJ/GND, 2 OUT, 3 IN, 4

## LM1117IMPX-5.0
designator U?
LDO Voltage Regulators 800mA Low-Dropout Linear Regulator 4-SOT-223 -40 to 125; Manufacturer: Texas Instruments; Output Current: 1.2 A; Product Status: Not Recommended for New Designs; Supplier 1: Mouser; Manufacturer Part Number: LM1117IMPX-5.0; RoHS: No; Category: LDO Voltage Regulators; Stock 1: 0; Pricing 1: 2000=0.659, 10000=0.635, 24000=0.620 (AUD); Package / Case: SOT-223-4; Packaging: Reel; Series: LM1117-N; Brand: Texas Instruments; Standard Pack Qty: 2000; RoHS - Mouser: N; Minimum Order Quantity: 2000; Reeling: True; ComponentLink1URL: http://www.mouser.com/ds/2/405/snos412m-286860.pdf; ComponentLink1Description: http://www.mouser.com/ds/2/405/snos412m-286860.pdf; Supplier Part Number 1: 926-LM1117IMPX-50; My_Descript: LM1117IMPX-5.0
footprint SOT223-4
pins: 1 ADJ/GND, 2 OUT, 3 IN, 4

## LM1117MP-2.5/NOPB
designator U?, comment LM1117MP-2.5
LDO Voltage Regulators 800mA LDO Linear Reg; Manufacturer: Texas Instruments; Manufacturer Part Number: LM1117MP-2.5/NOPB; Input Voltage MAX: 15 V; Number of Outputs: 1 Output; Output Type: Fixed; Output Voltage: 2.5 V; Dropout Voltage - Max: 1.3 V; PSRR / Ripple Rejection - Typ: 75 dB; Voltage Regulation Accuracy: 1.5 %; Input Voltage MIN: 2.6 V; Line Regulation: 1 mV; Supplier 1: Mouser; RoHS: RoHS Compliant; Category: LDO Voltage Regulators; Stock 1: 1172; Pricing 1: 1=1.43, 10=1.15, 100=0.886, 500=0.684, 1000=0.617, 2000=0.548, 10000=0.528, 25000=0.514 (AUD); Output Current: 800 mA; Package / Case: SOT-223-4; Packaging: Reel; Product: Low Dropout Linear Regulator; Series: LM1117-N; Type: Low Dropout Positive Regulator; Brand: Texas Instruments; Mounting Style: SMD/SMT; Load Regulation: 1 mV; Maximum Operating Temperature: + 125 C; Minimum Operating Temperature: 0 C; Standard Pack Qty: 1000; RoHS - Mouser: Y; Minimum Order Quantity: 1; Reeling: True; ComponentLink1URL: http://www.mouser.com/ds/2/405/snos412m-286860.pdf; ComponentLink1Description: http://www.mouser.com/ds/2/405/snos412m-286860.pdf; Supplier Part Number 1: 926-LM1117MP25NOPB; My_Descript: LM1117MP-2.5
footprint sot223-4
pins: 1 ADJ/GND, 2 OUT, 3 IN, 4

## LM1117MPX-3.3/NOPB
designator U?, comment LM1117MPX-3.3
LDO Voltage Regulators 800MA LDO LINEAR REG; Manufacturer: Texas Instruments; Manufacturer Part Number: LM1117MPX-3.3/NOPB; Input Voltage MAX: 15 V; Output Voltage: 1.8 V, 2.5 V, 2.85 V, 3.3 V, 5 V; Dropout Voltage - Max: 1.2 V; Supplier 1: Mouser; RoHS: RoHS Compliant; Category: LDO Voltage Regulators; Stock 1: 16945; Pricing 1: 1=1.43, 10=1.15, 100=0.886, 500=0.684, 1000=0.617, 2000=0.548, 10000=0.528, 24000=0.514 (AUD); Output Current: 800 mA; Package / Case: SOT-223-4; Packaging: Reel; Series: LM1117-N; Brand: Texas Instruments; Mounting Style: SMD/SMT; Maximum Operating Temperature: + 125 C; Minimum Operating Temperature: 0 C; Standard Pack Qty: 2000; RoHS - Mouser: Y; Minimum Order Quantity: 1; Reeling: True; ComponentLink1URL: http://www.mouser.com/ds/2/405/snos412m-286860.pdf; ComponentLink1Description: http://www.mouser.com/ds/2/405/snos412m-286860.pdf; Supplier Part Number 1: 926-LM1117MPX3.3NOPB; My_Descript: LM1117MPX-3.3
footprint sot223-4
pins: 1 ADJ/GND, 2 OUT, 3 IN, 4

## LM1117S-1.2
designator U?
LDO Voltage Regulators 800mA LDO Linear Reg; Input Voltage MAX: 15 V; Number of Outputs: 1 Output; Output Type: Fixed; Output Voltage: 1.2 V; Brand: Texas Instruments; PSRR / Ripple Rejection - Typ: 75 dB; Voltage Regulation Accuracy: 1.5 %; Input Voltage MIN: 2.6 V; Line Regulation: 1 mV; Supplier 1: Mouser; Manufacturer Part Number: LM1117S-1.2; RoHS: RoHS Compliant; Category: LDO Voltage Regulators; Stock 1: 1172; Pricing 1: 1=1.43, 10=1.15, 100=0.886, 500=0.684, 1000=0.617, 2000=0.548, 10000=0.528, 25000=0.514 (AUD); Output Current: 800 mA; Package / Case: SOT-223-4; Packaging: Reel; Product: Low Dropout Linear Regulator; Series: LM1117-N; Type: Low Dropout Positive Regulator; Mounting Style: SMD/SMT; Load Regulation: 1 mV; Maximum Operating Temperature: + 125 C; Minimum Operating Temperature: 0 C; Standard Pack Qty: 1000; RoHS - Mouser: Y; Minimum Order Quantity: 1; Reeling: True; Supplier Part Number 1: LM1117S-1.2; My_Descript: LM1117S-1.2
footprint sot223-4
pins: 1 ADJ/GND, 2 OUT, 3 IN, 4

## LM2596SX-ADJ/NOPB
designator U?
Voltage Regulators - Switching Regulators 150 KHZ 3A STEP-DOWN VLTG REG; Manufacturer: Texas Instruments; Input Voltage MAX: 40 V; Number of Outputs: 1 Output; Output Voltage: 1.2 V to 37 V; Switching Frequency: 127 kHz to 173 kHz; Topology: Buck; Input Voltage MIN: 4.5 V; Supplier 1: Mouser; Manufacturer Part Number: LM2596SX-ADJ/NOPB; RoHS: RoHS Compliant; Category: Voltage Regulators - Switching Regulators; Stock 1: 2076; Pricing 1: 1=6.12, 10=5.47, 25=4.91, 50=4.70, 100=4.48, 250=4.04, 500=3.62, 1000=3.28, 1500=2.73 (AUD); Operating Temperature Range: - 40 C to + 125 C; Output Current: 3 A; Package / Case: TO-263; Packaging: Reel; Series: LM2596; Type: Inverting, Step Down; Brand: Texas Instruments; Mounting Style: SMD/SMT; Maximum Operating Temperature: + 125 C; Minimum Operating Temperature: - 40 C; Standard Pack Qty: 500; Supply Voltage - Min: 4.5 V; RoHS - Mouser: Y; Minimum Order Quantity: 1; Reeling: True; ComponentLink1URL: http://www.mouser.com/ds/2/405/snvs124c-317006.pdf; ComponentLink1Description: http://www.mouser.com/ds/2/405/snvs124c-317006.pdf; Supplier Part Number 1: 926-LM2596SX-ADJNOPB; My_Descript: LM2596SX-ADJ/NOPB
footprint TO-263-5
pins: 1 Vin, 2 Ouput, 3 GND, 4 FeedBack, 5 ~{ON}/OFF, 6 GND

## LP2951ACS-5.0
designator U?  Supplier Part Number 2: 80-T495X476M35ATE200
LDO Voltage Regulators; Manufacturer: Exar; Mfr Case Code: X Case; Output Current: 1.1 A; Capacitance: 47 uF; Tolerance: 20 %; Voltage Rating: 35 V; ESR: 200 mOhms; Case Length: 7.3 mm; Case Width: 4.3 mm; Product Status: New at Mouser; Supplier 1: Mouser; Manufacturer Part Number: LP2951ACS-5.0; Category: LDO Voltage Regulators; Stock 1: 0; Package / Case: SOIC-8; Brand: Exar; Mounting Style: SMD/SMT; Minimum Order Quantity: 1; Reeling: False; Supplier Part Number 1: N/A; My_Descript: LP2951ACS-5.0; Supplier 2: Mouser; RoHS: RoHS Compliant; Stock 2: 2233; Pricing 2: 1=3.96, 10=3.04, 100=2.27, 500=1.54, 1000=1.35, 2500=1.26, 10000=1.21 (AUD); Height: 4.3 mm; Operating Temperature Range: - 55 C to + 125 C; Packaging: Reel; Product: Tantalum Solid Low ESR Industrial Grade; Series: T495; Termination Style: SMD/SMT; Case Code - in: 2917; Case Code - mm: 7343; Product Category: SMD Low ESR Tantalum Chip Capacitors; Standard Pack Qty: 500; RoHS - Mouser: Y; ComponentLink2URL: http://www.kemet.com/kemet/web/homepage/kechome.nsf/vapubfiles/KEM_T2009_T495.pdf/$file/KEM_T2009_T495.pdf; ComponentLink2Description: http://www.kemet.com/kemet/web/homepage/kechome.nsf/vapubfiles/KEM_T2009_T495.pdf/$file/KEM_T2009_T495.pdf
footprint SOIC8
pins: 1 VOUT, 2 SENSE, 3 SHDN, 4 GND, 5 ~{ERROR}, 6 VTAB, 7 FB[1.235], 8 VIN

## LTC3780EG#TRPBF
designator U?
IC REG CTRLR BUCK BST PWM 24SSOP; Manufacturer: Linear Technology; PWM Type: Current Mode; Number of Outputs: 1; Frequency - Max: 440kHz; Duty Cycle: 99%; Voltage - Supply: 4 V ~ 36 V; Buck: Yes; Flyback: No; Supplier 1: Digi-Key; Manufacturer Part Number: LTC3780EG#TRPBF; RoHS: RoHS Compliant; Category: Integrated Circuits (ICs); Stock 1: 1800; Pricing 1: 1800=5.56998 (USD); Packaging: Tape & Reel (TR); Boost: Yes; Inverting: No; Doubler: No; Divider: No; Cuk: No; Isolated: No; Operating Temperature: -40°C ~ 85°C; Package / Case: 24-SSOP (0.209", 5.30mm Width); ComponentLink1URL: http://www.linear.com/docs/7197; ComponentLink1Description: http://www.linear.com/docs/7197; Supplier Part Number 1: LTC3780EG#TRPBFTR-ND; My_Descript: LTC3780EG#TRPBF; Supplier 2: Mouser
footprint SSOP24P
pins: 1 PGood, 2 SS, 3 SNS+, 4 SNS-, 5 iTH, 6 Vsns[0.8V], 7 SGND, 8 RUN, 9 FCB, 10 PLLFLTR, 11 PLLin, 12 STDBY, 13 BST2, 14 TG2, 15 SW2, 16 BG2, 17 PGND, 18 BG1, 19 IntVcc, 20 ExtVCC[>=5.7V], 21 Vin, 22 SW1, 23 TG1, 24 BST1

## M12_4
designator P?
My_Descript: M12_4
footprint M12_4
pins: 1, 2, 3, 4

## M12_8
designator P?
My_Descript: M12_8
footprint M12_8
pins: 1, 2, 3, 4, 5, 6, 7, 8

## MAX809LTRG
designator U?
Supervisory Circuits 4.63V uP Reset; Manufacturer: ON Semiconductor; Output Type: Push-Pull; Manual Reset: No Manual Reset; Overvoltage Threshold: 4.7 V; Watchdog: No Watchdog; Battery Backup Switching: No Backup; Chip Enable Signals: No Chip Enable; Number of Inputs Monitored: 1 Input; Operating Supply Current: 0.8 uA; Power Fail Detection: No; Reset Delay Time: 460 ms; Supply Voltage - Max: 5.5 V; Supply Voltage - Min: 1 V; Threshold Voltage: 1.2 V to 4.9 V; Supplier 1: Mouser; Manufacturer Part Number: MAX809LTRG; RoHS: RoHS Compliant; Category: Supervisory Circuits; Stock 1: 167; Pricing 1: 1=0.689, 10=0.505, 100=0.317, 1000=0.246, 3000=0.209, 9000=0.194, 24000=0.185, 45000=0.181 (AUD); Package / Case: SOT-23-3; Packaging: Reel; Series: MAX809; Type: Voltage Supervisory; Brand: ON Semiconductor; Mounting Style: SMD/SMT; Undervoltage Threshold: 4.63 V; Maximum Operating Temperature: + 105 C; Minimum Operating Temperature: - 40 C; Product Category: Voltage Supervisory; Standard Pack Qty: 3000; RoHS - Mouser: Y; Minimum Order Quantity: 1; Reeling: True; ComponentLink1URL: http://www.mouser.com/ds/2/308/MAX809S-D-273965.pdf; ComponentLink1Description: http://www.mouser.com/ds/2/308/MAX809S-D-273965.pdf; Supplier Part Number 1: 863-MAX809LTRG; My_Descript: MAX809LTRG
footprint SOT-23-3
pins: 1 GND, 2 /RESET, 3 VCC

## MC14015BDR2G
designator U?
Counter Shift Registers 3-18V Dual 4-Bit CMOS Static Shift; Manufacturer: ON Semiconductor; Number of Circuits: 2; Counting Sequence: Serial to Parallel; Logic Family: MC14; Number of Input Lines: 1; Number of Output Lines: 4; Operating Supply Voltage: 3 V to 18 V; Propagation Delay Time: 90 ns; Supply Voltage - Max: 18 V; Supply Voltage - Min: 3 V; Supplier 1: Mouser; Manufacturer Part Number: MC14015BDR2G; RoHS: RoHS Compliant; Category: Counter Shift Registers; Stock 1: 5000; Pricing 1: 1=0.770, 10=0.571, 100=0.359, 1000=0.277, 2500=0.236, 10000=0.220, 25000=0.209, 50000=0.204 (AUD); Function: Shift Register; Package / Case: SOIC-16; Packaging: Reel; Series: MC14015B; Brand: ON Semiconductor; Logic Type: CMOS; Mounting Style: SMD/SMT; Maximum Operating Temperature: + 125 C; Minimum Operating Temperature: - 55 C; Product Category: Logic- Registers; Standard Pack Qty: 2500; RoHS - Mouser: Y; Minimum Order Quantity: 1; Reeling: True; ComponentLink1URL: http://www.mouser.com/ds/2/308/MC14015B-D-36946.pdf; ComponentLink1Description: http://www.mouser.com/ds/2/308/MC14015B-D-36946.pdf; Supplier Part Number 1: 863-MC14015BDR2G; My_Descript: MC14015BDR2G
footprint SOIC16
pins: 1 CB, 2 Q3B, 3 Q2A, 4 Q1A, 5 Q0A, 6 RA, 7 DA, 8 VSS, 9 CA, 10 Q3A, 11 Q2B, 12 Q1B, 13 Q0B, 14 RB, 15 DB, 16 VDD

## MC14504BDTG
designator U?
Translation - Voltage Levels Hex Shifter TTL/CMOS or CMOS/CMOS; Manufacturer: ON Semiconductor; Propagation Delay Time: 550 ns; Supply Voltage - Max: 18 V; Supply Voltage - Min: 3 V; Supplier 1: Mouser; Manufacturer Part Number: MC14504BDTG; RoHS: RoHS Compliant; Category: Translation - Voltage Levels; Stock 1: 1527; Pricing 1: 1=1.74, 10=1.39, 100=1.07, 500=0.944, 1000=0.745, 2500=0.660, 10000=0.636, 25000=0.616 (AUD); Package / Case: TSSOP-16; Packaging: Tube; Series: MC14504B; Type: CMOS/TTL to CMOS; Brand: ON Semiconductor; Mounting Style: SMD/SMT; Maximum Operating Temperature: + 125 C; Minimum Operating Temperature: - 55 C; Product Category: Logic- Translators; Standard Pack Qty: 96; RoHS - Mouser: Y; Minimum Order Quantity: 1; Reeling: False; ComponentLink1URL: http://www.mouser.com/ds/2/308/MC14504B-D-103983.pdf; ComponentLink1Description: http://www.mouser.com/ds/2/308/MC14504B-D-103983.pdf; Supplier Part Number 1: 863-MC14504BDTG; My_Descript: MC14504BDTG
footprint TSSOP16
pins: 1 VCC, 2 Aout, 3 Ain, 4 Bout, 5 Bin, 6 Cout, 7 Cin, 8 VSS, 9 Din, 10 Dout, 11 Ein, 12 Eout, 13 MODE, 14 Fin, 15 Fout, 16 VDD

## MINI_PCIE
designator J?
footprint mini_pcie_tg
pins: 1 WAKE#, 2 +3.3V_1, 3 RSVD1, 4 GND7, 5 RSVD2, 6 +1.5V_1, 7 CLKREQ#, 8 RSVD13, 9 GND1, 10 RSVD14, 11 REFCLK-, 12 RSVD15, 13 REFCLK+, 14 RSVD16, 15 GND2, 16 RSVD17, 17 RSVD3, 18 GND8, 19 RSVD4, 20 W_DISABLE#, 21 GND3, 22 PERST#, 23 PER_N0, 24 +3.3V_AUX, 25 PER_P0, 26 GND9, 27 GND4, 28 +1.5V_2, 29 GND5, 30 SMB_CLK, 31 PET_N0, 32 SMB_DATA, 33 PET_P0, 34 GND10, 35 GND6, 36 USB_D-, 37 RSVD5, 38 USB_D+, 39 RSVD6, 40 GND11, 41 RSVD7, 42 LED_WWAN#, 43 RSVD8, 44 LED_WLAN#, 45 RSVD9, 46 LED_WPAN#, 47 RSVD10, 48 +1.5V_3, 49 RSVD11, 50 GND12, 51 RSVD12, 52 +3.3V_2, 53 GNDM1, 54 GNDM2, 55 EXP1, 56 EXP2

## MM3Z4V7T1G
designator D?  Supplier Part Number 2: 522-BSS123ATA
Zener Diodes 4.7V 200mW; Manufacturer: ON Semiconductor; Configuration: Single; Zener Current: 10 mA; Maximum Reverse Leakage Current: 3 uA; Maximum Zener Impedance: 80 Ohms; Voltage Temperature Coefficient: - 1.65 mV/K; Voltage Tolerance: 6 %; Transistor Polarity: N-Channel; Channel Mode: Enhancement; Fall Time: 10 ns; Id - Continuous Drain Current: 170 mA; Pd - Power Dissipation: 360 mW; Rds On - Drain-Source Resistance: 10 Ohms; Typical Turn-Off Delay Time: 15 ns; Vds - Drain-Source Breakdown Voltage: 100 V; Vgs - Gate-Source Breakdown Voltage: 20 V; Product Status: Obsolete; Supplier 1: Mouser; Manufacturer Part Number: MM3Z4V7T1G; RoHS: RoHS Compliant; Category: Zener Diodes; Stock 1: 0; Pricing 1: 1=0.203, 10=0.169, 100=0.059, 1000=0.041, 3000=0.030, 9000=0.026, 24000=0.023, 45000=0.022, 99000=0.018 (AUD); Package / Case: SOD-323; Packaging: Reel; Series: MM3Z4V7; Brand: ON Semiconductor; Mounting Style: SMD/SMT; Power Dissipation: 200 mW; Maximum Operating Temperature: + 150 C; Minimum Operating Temperature: - 65 C; Product Category: Diodes- Zener; Standard Pack Qty: 3000; Zener Voltage: 4.7 V; RoHS - Mouser: Y; Minimum Order Quantity: 1; Reeling: True; ComponentLink1URL: http://www.mouser.com/ds/2/308/MM3Z2V4T1-D-269162.pdf; ComponentLink1Description: http://www.mouser.com/ds/2/308/MM3Z2V4T1-D-269162.pdf; Supplier Part Number 1: 863-MM3Z4V7T1G; My_Descript: MM3Z4V7T1G; Supplier 2: Mouser; Stock 2: 0; Rise Time: 10 ns; ComponentLink2URL: http://www.diodes.com/_files/products_inactive_data/BSS123A_R5.pdf; ComponentLink2Description: http://www.diodes.com/_files/products_inactive_data/BSS123A_R5.pdf
footprint SOD-323
pins: A, K

## MP1470GJ-P
designator U?
Voltage Regulators - Switching Regulators 2A, 16V, 500kHz Sync, Stp-Dwn Cnvrtr; Manufacturer: Monolithic Power Systems (MPS); Number of Outputs: 1 Output; Output Voltage: 800 mV to 3.3 V; Input Voltage MIN: 4.7 V; Product Status: New Product; Supplier 1: Mouser; Manufacturer Part Number: MP1470GJ-P; RoHS: RoHS Compliant; Category: Voltage Regulators - Switching Regulators; Stock 1: 340; Pricing 1: 1=1.73, 25=1.61, 100=1.49, 500=1.36, 1000=1.23 (AUD); Input Voltage MAX: 16 V; Operating Temperature Range: - 40 C to + 125 C; Output Current: 2 A; Package / Case: TSOT23-6; Packaging: Reel; Series: MP1470GJ; Type: Step Down Converter; Brand: Monolithic Power Systems (MPS); Mounting Style: SMD/SMT; Switching Frequency: 500 kHz; Maximum Operating Temperature: + 125 C; Minimum Operating Temperature: - 40 C; Standard Pack Qty: 500; Supply Voltage - Min: 4.7 V; RoHS - Mouser: Y; Minimum Order Quantity: 1; Reeling: True; ComponentLink1URL: https://www.monolithicpower.com/Lists/Product_Synchronous%20Switcher_5717/DispForm.aspx?ID=201; ComponentLink1Description: https://www.monolithicpower.com/Lists/Product_Synchronous%20Switcher_5717/DispForm.aspx?ID=201; Supplier Part Number 1: 946-MP1470GJP; My_Descript: MP1470GJ-P
footprint TSOT23-6
pins: 1 GND, 2 SW, 3 IN, 4 FB, 5 EN, 6 BST

## MP1583
designator U?
footprint SOIC127P600X175-8N_T
footprint SOIC8-THER
pins: 1 BS, 2 IN, 3 SW, 4 GND, 5 FB, 6 COMP, 7 EN, 8 SYNC, 9 PAD hidden to GND